# Altium footprint library RF-Switches.PcbLib: 3 footprints
Each footprint in its own frame and in the unit in brackets; x right, y up, seen from the top. Pads: shape width x height; smd on the part's side, far side on the other; paste and mask are expansions set on the pad; w line width, h text height; cw(c..) or ccw(c..) is an arc to the next point about the centre after c.
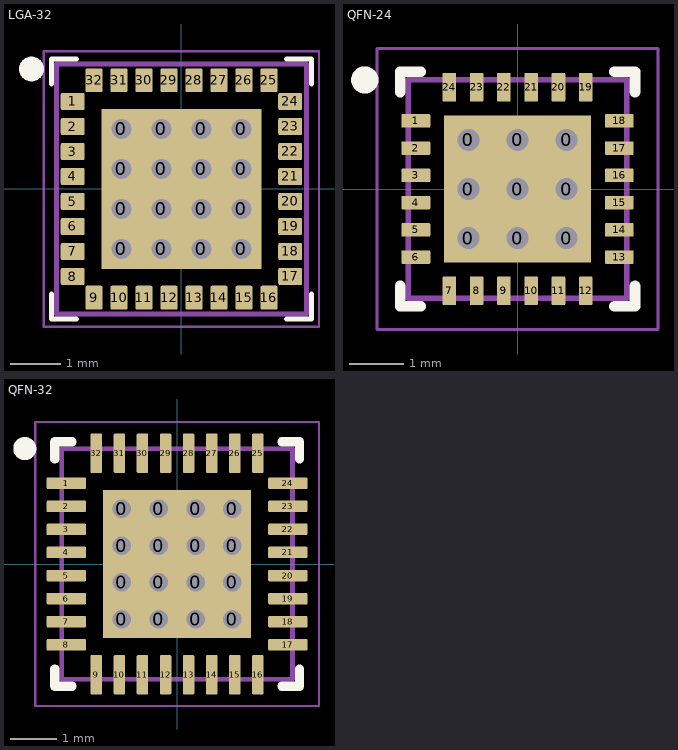
[diagram p0: the footprints below, top view; thin cyan lines are the x and y axes]

## LGA-32 [mm] "LGA, 32-Leads, Body 5.00x5.00mmx1.00mm, Pitch 0.50mm"
height 1
pads (49):
  rect 0.8x0.8 hole 0.4: 0(-1.2,-1.2) 0(-1.2,-0.4) 0(-1.2,0.4) 0(-1.2,1.2) 0(-0.4,-1.2) 0(-0.4,-0.4) 0(-0.4,0.4) 0(-0.4,1.2) 0(0.4,-1.2) 0(0.4,-0.4) 0(0.4,0.4) 0(0.4,1.2) 0(1.2,-1.2) 0(1.2,-0.4) 0(1.2,0.4) 0(1.2,1.2)
  rrect20% 0.48x0.34 smd: 1(-2.175,1.75) 2(-2.175,1.25) 3(-2.175,0.75) 4(-2.175,0.25) 5(-2.175,-0.25) 6(-2.175,-0.75) 7(-2.175,-1.25) 8(-2.175,-1.75) 17(2.175,-1.75) 18(2.175,-1.25) 19(2.175,-0.75) 20(2.175,-0.25) 21(2.175,0.25) 22(2.175,0.75) 23(2.175,1.25) 24(2.175,1.75)
  rrect20% 0.34x0.48 smd: 9(-1.75,-2.175) 10(-1.25,-2.175) 11(-0.75,-2.175) 12(-0.25,-2.175) 13(0.25,-2.175) 14(0.75,-2.175) 15(1.25,-2.175) 16(1.75,-2.175) 25(1.75,2.175) 26(1.25,2.175) 27(0.75,2.175) 28(0.25,2.175) 29(-0.25,2.175) 30(-0.75,2.175) 31(-1.25,2.175) 32(-1.75,2.175)
  round 0.5 on Top Overlay: ""(-3,2.4)
Top Overlay:
  lines w0.1: -2.6,-2.1 -2.6,-2.6 -2.1,-2.6 ; -2.6,2.1 -2.6,2.6 -2.1,2.6 ; 2.1,-2.6 2.6,-2.6 2.6,-2.1 ; 2.1,2.6 2.6,2.6 2.6,2.1
Mechanical 13:
  lines w0.1: -2.5,-2.5 -2.5,2.5 2.5,2.5 2.5,-2.5 -2.5,-2.5
Mechanical 15:
  lines w0.05: -2.75,-2.75 -2.75,2.75 2.75,2.75 2.75,-2.75 -2.75,-2.75
  lines w0.1: -0.5,0 0.5,0 ; 0,-0.5 0,0.5
3D body "LGA-32_5.0x5.0mm_P0.5mm_EP3.03x3.03mm.STEP": height 0.94, standoff 0, extent -2.5,-2.5 2.5,2.5

## QFN-24 [mm] "QFN, 24-Leads, Body 4.00x4.00mm, Pitch 0.50mm, Thermal Pad 2.70x2.70mm, IPC Medium Density"
height 0.75
pads (33):
  rect 0.9x0.9 hole 0.4: 0(-0.9,-0.9) 0(-0.9,0) 0(-0.9,0.9) 0(0,-0.9) 0(0,0) 0(0,0.9) 0(0.9,-0.9) 0(0.9,0) 0(0.9,0.9)
  rrect20% 0.53x0.25 smd: 1(-1.865,1.25) 2(-1.865,0.75) 3(-1.865,0.25) 4(-1.865,-0.25) 5(-1.865,-0.75) 6(-1.865,-1.25) 13(1.865,-1.25) 14(1.865,-0.75) 15(1.865,-0.25) 16(1.865,0.25) 17(1.865,0.75) 18(1.865,1.25)
  rrect20% 0.25x0.53 smd: 7(-1.25,-1.865) 8(-0.75,-1.865) 9(-0.25,-1.865) 10(0.25,-1.865) 11(0.75,-1.865) 12(1.25,-1.865) 19(1.25,1.865) 20(0.75,1.865) 21(0.25,1.865) 22(-0.25,1.865) 23(-0.75,1.865) 24(-1.25,1.865)
Top Overlay:
  circle w0.25: c-2.8,2 r0.125
  lines w0.2: -2.15,-1.775 -2.15,-2.15 -1.775,-2.15 ; -2.15,1.775 -2.15,2.15 -1.775,2.15 ; 1.775,-2.15 2.15,-2.15 2.15,-1.775 ; 1.775,2.15 2.15,2.15 2.15,1.775
Mechanical 13:
  lines w0.1: -2,-2 -2,2 2,2 2,-2 -2,-2
Mechanical 15:
  lines w0.05: -2.575,-2.575 -2.575,2.575 2.575,2.575 2.575,-2.575 -2.575,-2.575
  lines w0.1: -0.5,0 0.5,0 ; 0,-0.5 0,0.5
3D body "QFN-24-1EP_4x4mm_P0.5mm_EP2.7x2.7mm.step": height 1.1, standoff 0, extent -2,-2 2,2

## QFN-32 [mm] "QFN, 32-Leads, Body 5.00x5.00mm, Pitch 0.50mm, Thermal Pad 3.10x3.10mm, IPC Medium Density"
height 0.9
pads (48):
  rect 0.8x0.8 hole 0.4: 0(-1.2,-1.2) 0(-1.2,-0.4) 0(-1.2,0.4) 0(-1.2,1.2) 0(-0.4,-1.2) 0(-0.4,-0.4) 0(-0.4,0.4) 0(-0.4,1.2) 0(0.4,-1.2) 0(0.4,-0.4) 0(0.4,0.4) 0(0.4,1.2) 0(1.2,-1.2) 0(1.2,-0.4) 0(1.2,0.4) 0(1.2,1.2)
  rrect20% 0.85x0.25 smd: 1(-2.4,1.75) 2(-2.4,1.25) 3(-2.4,0.75) 4(-2.4,0.25) 5(-2.4,-0.25) 6(-2.4,-0.75) 7(-2.4,-1.25) 8(-2.4,-1.75) 17(2.4,-1.75) 18(2.4,-1.25) 19(2.4,-0.75) 20(2.4,-0.25) 21(2.4,0.25) 22(2.4,0.75) 23(2.4,1.25) 24(2.4,1.75)
  rrect20% 0.25x0.85 smd: 9(-1.75,-2.4) 10(-1.25,-2.4) 11(-0.75,-2.4) 12(-0.25,-2.4) 13(0.25,-2.4) 14(0.75,-2.4) 15(1.25,-2.4) 16(1.75,-2.4) 25(1.75,2.4) 26(1.25,2.4) 27(0.75,2.4) 28(0.25,2.4) 29(-0.25,2.4) 30(-0.75,2.4) 31(-1.25,2.4) 32(-1.75,2.4)
Top Overlay:
  circle w0.25: c-3.3,2.5 r0.125
  lines w0.2: -2.65,-2.275 -2.65,-2.65 -2.275,-2.65 ; -2.65,2.275 -2.65,2.65 -2.275,2.65 ; 2.275,-2.65 2.65,-2.65 2.65,-2.275 ; 2.275,2.65 2.65,2.65 2.65,2.275
Mechanical 1:
  lines w0.1: -2.5,-2.5 -2.5,2.5 2.5,2.5 2.5,-2.5 -2.5,-2.5
Mechanical 15:
  lines w0.05: -3.075,-3.075 -3.075,3.075 3.075,3.075 3.075,-3.075 -3.075,-3.075
  lines w0.1: -0.5,0 0.5,0 ; 0,-0.5 0,0.5
3D body "QFN-32-1EP_5x5mm_P0.5mm_EP3.1x3.1mm.step": height 1.1, standoff 0, extent -2.5,-2.5 2.5,2.5